# Altium schematic symbol library TPS3831A09DQNT.SchLib: 2 symbols
Pins are listed as number, name and electrical type; pins without a type are passive.

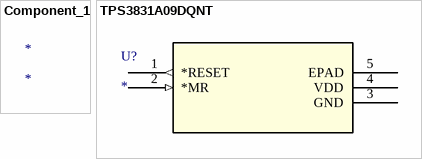
[diagram p0: symbols Component_1 to TPS3831A09DQNT]

## Component_1
designator *

## TPS3831A09DQNT
designator U?
No Description Available; Mfr_Name: Texas Instruments; RefDes: RefDes; Type: Type
footprint DQN4_TEX
pins: 1 *RESET (out), 2 *MR (in), 3 GND (power), 4 VDD (power), 5 EPAD